# Altium footprint library RF Connector.PcbLib: 19 footprints (part 1 of 2)
Each footprint in its own frame and in the unit in brackets; x right, y up, seen from the top. Pads: shape width x height; smd on the part's side, far side on the other; paste and mask are expansions set on the pad; w line width, h text height; cw(c..) or ccw(c..) is an arc to the next point about the centre after c.
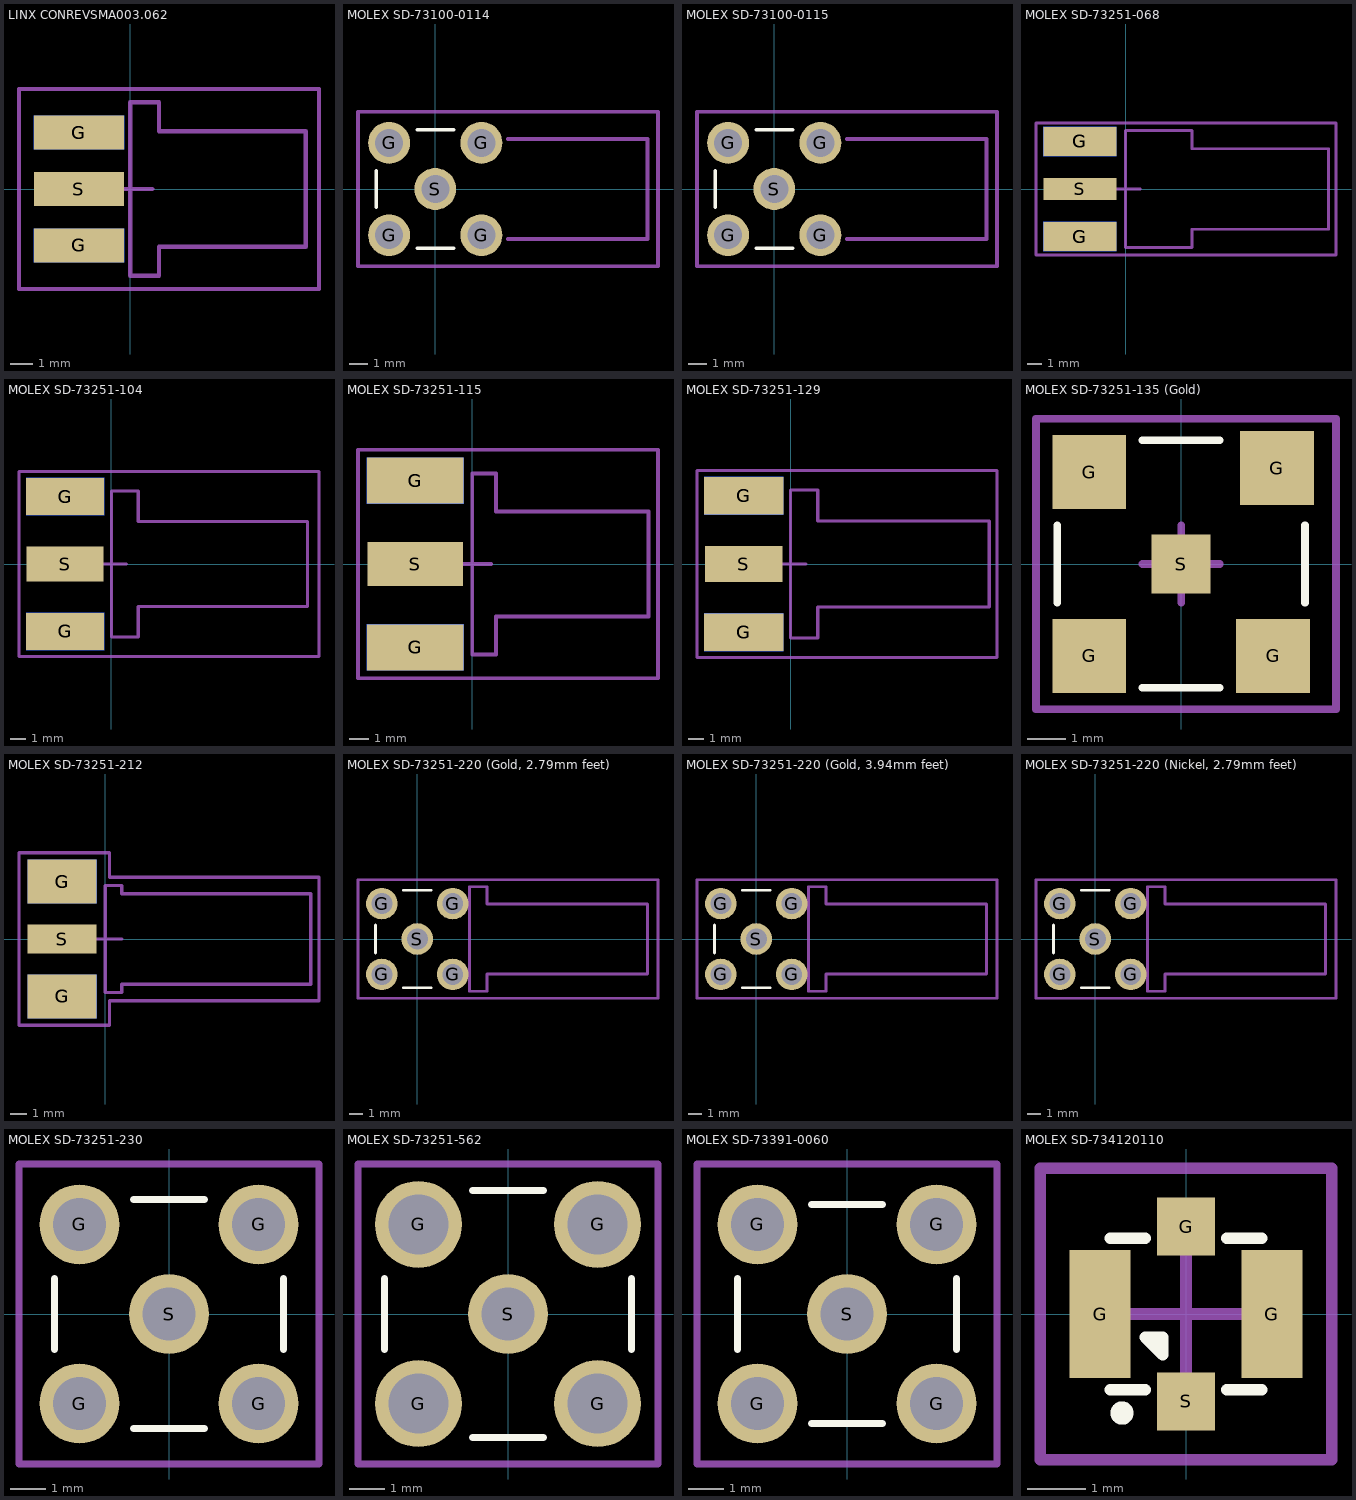
[diagram p0: the footprints below, top view; thin cyan lines are the x and y axes]

## LINX CONREVSMA003.062 [mm] "RP-SMA FEMALE EDGE MOUNT FOR 0.062\" THICK BOARD"
height 4.62
pads (5):
  rect 4.06x1.52 smd: G(-2.3,-2.54) G(-2.3,2.54) S(-2.3,0)
  rect 4.06x1.52 smd far side: G(-2.3,-2.54) G(-2.3,2.54)
Board:
  lines w0.2: 0,-3.9 1.3,-3.9 1.3,-2.6 7.9,-2.6 7.9,2.6 1.3,2.6 1.3,3.9 0,3.9 0,-3.9
Top Courtyard:
  lines w0.2: -1,0 1,0 ; 0,-1 0,1 ; -5,-4.5 8.5,-4.5 8.5,4.5 -5,4.5 -5,-4.5
3D body "Linx RP-SMA CONREVSMA003.062.STEP": height 4.61, standoff -3.31, extent -3.9,-3.965 7.86,3.965

## MOLEX SD-73100-0114 [mm]
pads (5):
  round 2.302 hole 1.54: G(-2.54,-2.54) G(2.54,-2.54)
  round 2.304 hole 1.54: G(-2.54,2.54) G(2.54,2.54) S(0,0)
Top Overlay:
  lines w0.2: -3.25,-1 -3.25,1 ; -1,-3.25 1,-3.25 ; -1,3.25 1,3.25
Board:
  lines w0.2: 4,-2.75 11.675,-2.75 11.675,2.75 4,2.75
Top Courtyard:
  lines w0.2: -1,0 1,0 ; 0,-1 0,1 ; -4.25,-4.25 -4.25,4.25 12.25,4.25 12.25,-4.25 -4.25,-4.25
3D body "MOLEX SD-73100-0114.stp": height 9.67, standoff -3.83, extent -3.125,-3.175 11.675,3.175

## MOLEX SD-73100-0115 [mm]
pads (5):
  round 2.302 hole 1.54: G(-2.54,-2.54) G(2.54,-2.54)
  round 2.304 hole 1.54: G(-2.54,2.54) G(2.54,2.54) S(0,0)
Top Overlay:
  lines w0.2: -3.25,-1 -3.25,1 ; -1,-3.25 1,-3.25 ; -1,3.25 1,3.25
Board:
  lines w0.2: 4,-2.75 11.675,-2.75 11.675,2.75 4,2.75
Top Courtyard:
  lines w0.2: -1,0 1,0 ; 0,-1 0,1 ; -4.25,-4.25 -4.25,4.25 12.25,4.25 12.25,-4.25 -4.25,-4.25
3D body "MOLEX SD-73100-0115.stp": height 9.67, standoff -3.83, extent -3.125,-3.175 11.675,3.175

## MOLEX SD-73251-068 [mm]
pads (5):
  rect 5x2 smd: G(-3.125,-3.25) G(-3.125,3.25)
  rect 5x2 smd far side: G(-3.125,-3.25) G(-3.125,3.25)
  rect 5x1.52 smd: S(-3.125,0)
Board:
  lines w0.2: 0,-4 0,4 4.525,4 4.525,2.75 13.875,2.75 13.875,-2.75 4.525,-2.75 4.525,-4 0,-4
Top Courtyard:
  lines w0.2: -1,0 1,0 ; 0,-1 0,1 ; -6.125,-4.5 -6.125,4.5 14.375,4.5 14.375,-4.5 -6.125,-4.5
3D body "MOLEX SD-73251-068.stp": height 4.5, standoff -3.5, extent -5.455,-4 14.003,4

## MOLEX SD-73251-104 [mm]
pads (5):
  rect 5.08x2.415 smd: G(-3,-4.383) G(-3,4.383)
  rect 5.08x2.415 smd far side: G(-3,-4.383) G(-3,4.383)
  rect 5x2.29 smd: S(-3,0)
Board:
  lines w0.2: 0,-4.75 0,4.75 1.75,4.75 1.75,2.75 12.75,2.75 12.75,-2.75 1.75,-2.75 1.75,-4.75 0,-4.75
Top Courtyard:
  lines w0.2: -1,0 1,0 ; 0,-1 0,1 ; -6,-6 -6,6 13.5,6 13.5,-6 -6,-6
3D body "MOLEX SD-73251-104.stp": height 4.41, standoff -3.51, extent -4.75,-4.765 12.828,4.765

## MOLEX SD-73251-115 [mm]
pads (5):
  rect 5.08x2.415 smd: G(-3,-4.383) G(-3,4.383)
  rect 5.08x2.415 smd far side: G(-3,-4.383) G(-3,4.383)
  rect 5x2.29 smd: S(-3,0)
Board:
  lines w0.2: 0,-4.75 1.25,-4.75 1.25,-2.75 9.25,-2.75 9.25,2.75 1.25,2.75 1.25,4.75 0,4.75 0,-4.75
Top Courtyard:
  lines w0.2: -1,0 1,0 ; 0,-1 0,1 ; -6,-6 9.75,-6 9.75,6 -6,6 -6,-6
3D body "MOLEX SD-73251-115.stp": height 4.36, standoff -3.56, extent -5.137,-4.75 9.137,4.775

## MOLEX SD-73251-129 [mm]
pads (5):
  rect 5.08x2.415 smd: G(-3,-4.383) G(-3,4.383)
  rect 5.08x2.415 smd far side: G(-3,-4.383) G(-3,4.383)
  rect 5x2.29 smd: S(-3,0)
Board:
  lines w0.2: 0,-4.75 1.75,-4.75 1.75,-2.75 12.75,-2.75 12.75,2.75 1.75,2.75 1.75,4.75 0,4.75 0,-4.75
Top Courtyard:
  lines w0.2: -1,0 1,0 ; 0,-1 0,1 ; -6,-6 -6,6 13.25,6 13.25,-6 -6,-6
3D body "MOLEX SD-73251-129.stp": height 4.36, standoff -3.56, extent -4.75,-4.765 12.7,4.765

## MOLEX SD-73251-135 (Gold) [mm]
pads (5):
  rect 1.91x1.91 smd: G(-2.375,-2.375) G(-2.375,2.375) G(2.375,-2.375) G(2.475,2.475)
  rect 1.52x1.52 smd: S(0,0)
Top Overlay:
  lines w0.2: -3.2,-1 -3.2,1 ; -1,-3.2 1,-3.2 ; -1,3.2 1,3.2 ; 3.2,-1 3.2,1
Top Courtyard:
  lines w0.2: -1,0 1,0 ; 0,-1 0,1 ; -3.75,-3.75 -3.75,3.75 4,3.75 4,-3.75 -3.75,-3.75
3D body "MOLEX SD-73251-135 Gold.stp": height 9.52, standoff -0.11, extent -3.175,-3.175 3.175,3.175

## MOLEX SD-73251-212 [mm]
pads (5):
  rect 4.19x2.665 smd: G(-2.625,-3.492) G(-2.625,3.492)
  rect 4.19x2.665 smd far side: G(-2.625,-3.492) G(-2.625,3.492)
  rect 4.19x1.78 smd: S(-2.625,0)
Board:
  lines w0.2: 0,-3.25 0,3.25 1,3.25 1,2.75 12.5,2.75 12.5,-2.75 1,-2.75 1,-3.25 0,-3.25
Top Courtyard:
  lines w0.2: -1,0 1,0 ; 0,-1 0,1 ; -5.25,-5.25 -5.25,5.25 0.25,5.25 0.25,3.75 13,3.75 13,-3.75 0.25,-3.75 0.25,-5.25 -5.25,-5.25
3D body "MOLEX SD-73251-212.stp": height 3.88, standoff -2.47, extent -3.81,-3.175 12.45,3.175

## MOLEX SD-73251-220 (Gold, 2.79mm feet) [mm]
pads (5):
  round 2.262 hole 1.5: G(-2.54,-2.54) G(-2.54,2.54) G(2.54,-2.54) G(2.54,2.54) S(0,0)
Top Overlay:
  lines w0.2: -3,-1 -3,1 ; -1,-3.5 1,-3.5 ; -1,3.5 1,3.5
Board:
  lines w0.2: 3.75,-3.75 3.75,3.75 5,3.75 5,2.5 16.5,2.5 16.5,-2.5 5,-2.5 5,-3.75 3.75,-3.75
Top Courtyard:
  lines w0.2: -1,0 1,0 ; 0,-1 0,1 ; -4.25,-4.25 -4.25,4.25 17.25,4.25 17.25,-4.25 -4.25,-4.25
3D body "MOLEX SD-73251-220 Gold 279.stp": height 10.59, standoff -2.64, extent -3,-3.9 16.55,3.9

## MOLEX SD-73251-220 (Gold, 3.94mm feet) [mm]
pads (5):
  round 2.262 hole 1.5: G(-2.54,-2.54) G(-2.54,2.54) G(2.54,-2.54) G(2.54,2.54) S(0,0)
Top Overlay:
  lines w0.2: -3,-1 -3,1 ; -1,-3.5 1,-3.5 ; -1,3.5 1,3.5
Board:
  lines w0.2: 3.75,-3.75 3.75,3.75 5,3.75 5,2.5 16.5,2.5 16.5,-2.5 5,-2.5 5,-3.75 3.75,-3.75
Top Courtyard:
  lines w0.2: -1,0 1,0 ; 0,-1 0,1 ; -4.25,-4.25 -4.25,4.25 17.25,4.25 17.25,-4.25 -4.25,-4.25
3D body "MOLEX SD-73251-220 Gold 394.stp": height 10.59, standoff -3.79, extent -3,-3.9 16.55,3.9

## MOLEX SD-73251-220 (Nickel, 2.79mm feet) [mm]
pads (5):
  round 2.262 hole 1.5: G(-2.54,-2.54) G(-2.54,2.54) G(2.54,-2.54) G(2.54,2.54) S(0,0)
Top Overlay:
  lines w0.2: -3,-1 -3,1 ; -1,-3.5 1,-3.5 ; -1,3.5 1,3.5
Board:
  lines w0.2: 3.75,-3.75 5,-3.75 5,-2.5 16.5,-2.5 16.5,2.5 5,2.5 5,3.75 3.75,3.75 3.75,-3.75
Top Courtyard:
  lines w0.2: -1,0 1,0 ; 0,-1 0,1 ; -4.25,-4.25 17.25,-4.25 17.25,4.25 -4.25,4.25 -4.25,-4.25
3D body "MOLEX SD-73251-220 Nickel 279.stp": height 10.59, standoff -2.64, extent -3,-3.9 16.55,3.9

## MOLEX SD-73251-230 [mm]
pads (5):
  round 2.262 hole 1.5: G(-2.54,-2.54) G(-2.54,2.54) G(2.54,-2.54) G(2.54,2.54) S(0,0)
Top Overlay:
  lines w0.2: -3.25,-1 -3.25,1 ; -1,-3.25 1,-3.25 ; -1,3.25 1,3.25 ; 3.25,-1 3.25,1
Top Courtyard:
  lines w0.2: -1,0 1,0 ; 0,-1 0,1 ; -4.25,-4.25 -4.25,4.25 4.25,4.25 4.25,-4.25 -4.25,-4.25
3D body "MOLEX SD-73251-230.stp": height 9.86, standoff -3.84, extent -3.175,-3.175 3.175,3.175

## MOLEX SD-73251-562 [mm]
pads (5):
  round 2.462 hole 1.7: G(-2.54,-2.54) G(-2.54,2.54) G(2.54,-2.54) G(2.54,2.54)
  round 2.262 hole 1.5: S(0,0)
Top Overlay:
  lines w0.2: -3.5,-1 -3.5,1 ; -1,-3.5 1,-3.5 ; -1,3.5 1,3.5 ; 3.5,-1 3.5,1
Top Courtyard:
  lines w0.2: -1,0 1,0 ; 0,-1 0,1 ; -4.25,-4.25 -4.25,4.25 4.25,4.25 4.25,-4.25 -4.25,-4.25
3D body "MOLEX SD-73251-562.stp": height 14.24, standoff -3.84, extent -3.5,-3.5 3.5,3.5

## MOLEX SD-73391-0060 [mm]
pads (5):
  round 2.262 hole 1.5: G(-2.54,-2.54) G(-2.54,2.54) G(2.54,-2.54) G(2.54,2.54) S(0,0)
Top Overlay:
  lines w0.2: -3.1,-1 -3.1,1 ; -1,-3.1 1,-3.1 ; -1,3.1 1,3.1 ; 3.1,-1 3.1,1
Top Courtyard:
  lines w0.2: -1,0 1,0 ; 0,-1 0,1 ; -4.25,-4.25 4.25,-4.25 4.25,4.25 -4.25,4.25 -4.25,-4.25
3D body "MOLEX SD-73391-0060.stp": height 9.6, standoff -3.9, extent -3.175,-3.173 3.175,3.175

## MOLEX SD-734120110 [mm]
height 1.3
pads (4):
  rect 1.05x2.2 smd: G(-1.475,0) G(1.475,0)
  rect 1x1 smd: G(0,1.5) S(0,-1.5)
Top Overlay:
  circle w0.2: c-1.1,-1.7 r0.1
  lines w0.2: -1.3,-1.3 -0.7,-1.3 ; -1.3,1.3 -0.7,1.3 ; 0.7,-1.3 1.3,-1.3 ; 0.7,1.3 1.3,1.3 ; -0.7,-0.4 -0.4,-0.4 -0.4,-0.7 -0.7,-0.4
Top Courtyard:
  lines w0.2: -1,0 1,0 ; 0,-1 0,1 ; -2.5,-2.5 -2.5,2.5 2.5,2.5 2.5,-2.5 -2.5,-2.5
3D body "Molex 734120110.STEP": height 1.3, standoff 0, extent -1.5,-1.54 1.5,1.54